# Altium footprint library AMC1301.PcbLib: 4 footprints
Each footprint in its own frame and in the unit in brackets; x right, y up, seen from the top. Pads: shape width x height; smd on the part's side, far side on the other; paste and mask are expansions set on the pad; w line width, h text height; cw(c..) or ccw(c..) is an arc to the next point about the centre after c.
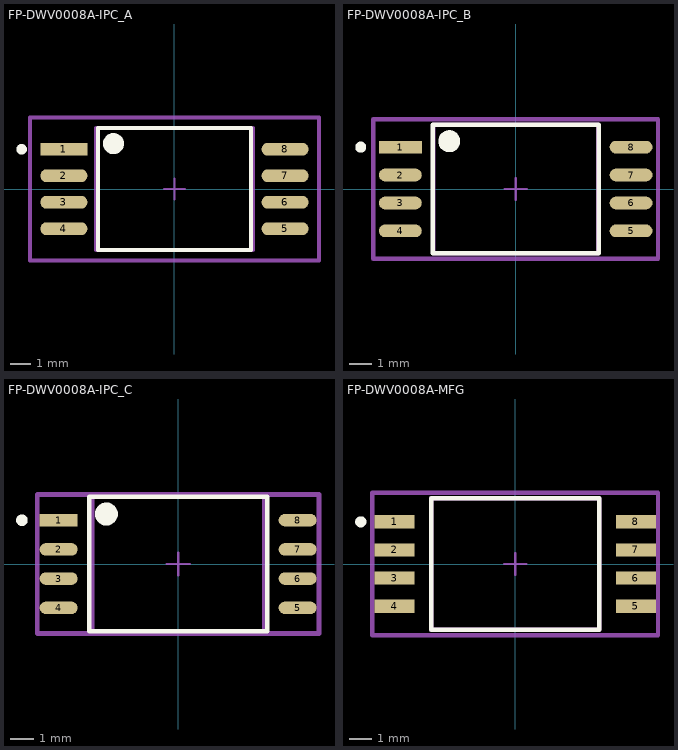
[diagram p0: the footprints below, top view; thin cyan lines are the x and y axes]

## FP-DWV0008A-IPC_A [mil]
pads (8):
  rect 88.74x24.49 smd paste+0 mask+0: 1(-208.68,75)
  rrect100% 88.74x24.49 smd paste+0 mask+0: 2(-208.68,25) 3(-208.68,-25) 4(-208.68,-75) 5(208.68,-75) 6(208.68,-25) 7(208.68,25) 8(208.68,75)
Top Overlay:
  circle w19.68: c-115.1,85.63 r9.84
  circle w9.84: c-288.48,75 r4.92
  lines w7.87: -144.63,-115.16 144.63,-115.16 144.63,115.16 -144.63,115.16 -144.63,-115.16
Top 3D Body:
  lines w7.87: -147.64,-115.16 147.64,-115.16 147.64,115.16 -147.64,115.16 -147.64,-115.16
Top Assembly:
  lines w7.87: -272.74,-134.84 272.74,-134.84 272.74,134.84 -272.74,134.84 -272.74,-134.84
  text ".Designator" at 0,7.39 h39.37
Top Component Center:
  lines w3.94: -19.68,0 19.68,0 ; 0,-19.68 0,19.68
Top Courtyard:
  lines w7.87: -272.74,-134.84 272.74,-134.84 272.74,134.84 -272.74,134.84 -272.74,-134.84
3D body "IC_Texas_Instruments_AMC1301QDWVQ1_eec.STEP": height 10, standoff 0, extent -272.74,-134.84 272.74,134.84

## FP-DWV0008A-IPC_B [mil]
pads (8):
  rect 76.93x22.92 smd paste+0 mask+0: 1(-206.71,75)
  rrect100% 76.93x22.92 smd paste+0 mask+0: 2(-206.71,25) 3(-206.71,-25) 4(-206.71,-75) 5(206.71,-75) 6(206.71,-25) 7(206.71,25) 8(206.71,75)
Top Overlay:
  circle w9.84: c-277.66,75 r4.92
  circle w19.68: c-119.04,85.63 r9.84
  lines w7.87: -148.57,-115.16 -148.57,115.16 148.57,115.16 148.57,-115.16 -148.57,-115.16
Top 3D Body:
  lines w7.87: -147.64,-115.16 -147.64,115.16 147.64,115.16 147.64,-115.16 -147.64,-115.16
Top Assembly:
  lines w7.87: -255.02,-125 -255.02,125 255.02,125 255.02,-125 -255.02,-125
  text ".Designator" at 0,7.39 h39.37
Top Component Center:
  lines w3.94: -19.68,0 19.68,0 ; 0,-19.68 0,19.68
Top Courtyard:
  lines w7.87: -255.02,-125 -255.02,125 255.02,125 255.02,-125 -255.02,-125
3D body "IC_Texas_Instruments_AMC1301QDWVQ1_eec.STEP": height 10, standoff 0, extent -255.02,-125 255.02,125

## FP-DWV0008A-IPC_C [mil]
pads (8):
  rect 65.12x21.34 smd paste+0 mask+0: 1(-204.75,75)
  rrect100% 65.12x21.34 smd paste+0 mask+0: 2(-204.75,25) 3(-204.75,-25) 4(-204.75,-75) 5(204.75,-75) 6(204.75,-25) 7(204.75,25) 8(204.75,75)
Top Overlay:
  circle w19.68: c-122.97,85.63 r9.84
  circle w9.84: c-267.81,75 r4.92
  lines w7.87: -152.5,-115.16 152.5,-115.16 152.5,115.16 -152.5,115.16 -152.5,-115.16
Top 3D Body:
  lines w7.87: -147.64,-115.16 147.64,-115.16 147.64,115.16 -147.64,115.16 -147.64,-115.16
Top Assembly:
  lines w7.87: -241.24,-119.09 241.24,-119.09 241.24,119.09 -241.24,119.09 -241.24,-119.09
  text ".Designator" at 0,7.39 h39.37
Top Component Center:
  lines w3.94: -19.68,0 19.68,0 ; 0,-19.68 0,19.68
Top Courtyard:
  lines w7.87: -241.24,-119.09 241.24,-119.09 241.24,119.09 -241.24,119.09 -241.24,-119.09
3D body "IC_Texas_Instruments_AMC1301QDWVQ1_eec.STEP": height 10, standoff 0, extent -241.24,-119.09 241.24,119.09

## FP-DWV0008A-MFG [mm]
pads (8):
  rect 1.8x0.6 smd paste+0 mask+0: 1(-5.45,1.905) 2(-5.45,0.635) 3(-5.45,-0.635) 4(-5.45,-1.905) 5(5.45,-1.905) 6(5.45,-0.635) 7(5.45,0.635) 8(5.45,1.905)
Top Overlay:
  circle w0.25: c-6.975,1.905 r0.125
  lines w0.2: -3.8,-2.975 3.8,-2.975 3.8,2.975 -3.8,2.975 -3.8,-2.975
Top 3D Body:
  lines w0.2: -3.8,-2.975 3.8,-2.975 3.8,2.975 -3.8,2.975 -3.8,-2.975
Top Assembly:
  lines w0.2: -6.45,-3.225 6.45,-3.225 6.45,3.225 -6.45,3.225 -6.45,-3.225
  text ".Designator" at 0,0.188 h1
Top Component Center:
  lines w0.1: -0.5,0 0.5,0 ; 0,-0.5 0,0.5
Top Courtyard:
  lines w0.2: -6.45,-3.225 6.45,-3.225 6.45,3.225 -6.45,3.225 -6.45,-3.225
3D body "IC_Texas_Instruments_AMC1301QDWVQ1_eec.STEP": height 0.25, standoff 0, extent -6.45,-3.225 6.45,3.225